# Altium schematic symbol library Button.SchLib: 7 symbols
Pins are listed as number, name and electrical type; pins without a type are passive.

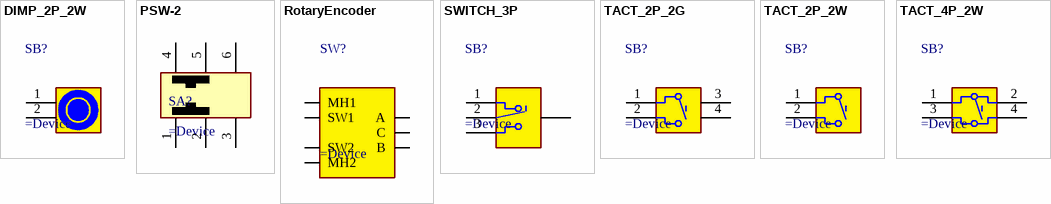
[diagram p0: symbols DIMP_2P_2W to TACT_4P_2W]

## DIMP_2P_2W
designator SB?
pins: 1 T1, 2 T2

## PSW-2
designator SA?
pins: 1 T1, 2 T1, 3 T1, 4 T1, 5 T1, 6 T1

## RotaryEncoder
designator SW?
pins: A, B, C, MH1, MH2, SW1, SW2

## SWITCH_3P
designator SB?
pins: 0 SHLD, 1 T1, 2 T2, 3 T3

## TACT_2P_2G
designator SB?
pins: 1 T1, 2 T2, 3 GND, 4 GND

## TACT_2P_2W
designator SB?
pins: 1 T1, 2 T2

## TACT_4P_2W
designator SB?
pins: 1 T1, 2 T2, 3 T3, 4 T3